# Altium footprint library 1008 Metric2520.PcbLib: 1 footprints
Each footprint in its own frame and in the unit in brackets; x right, y up, seen from the top. Pads: shape width x height; smd on the part's side, far side on the other; paste and mask are expansions set on the pad; w line width, h text height; cw(c..) or ccw(c..) is an arc to the next point about the centre after c.
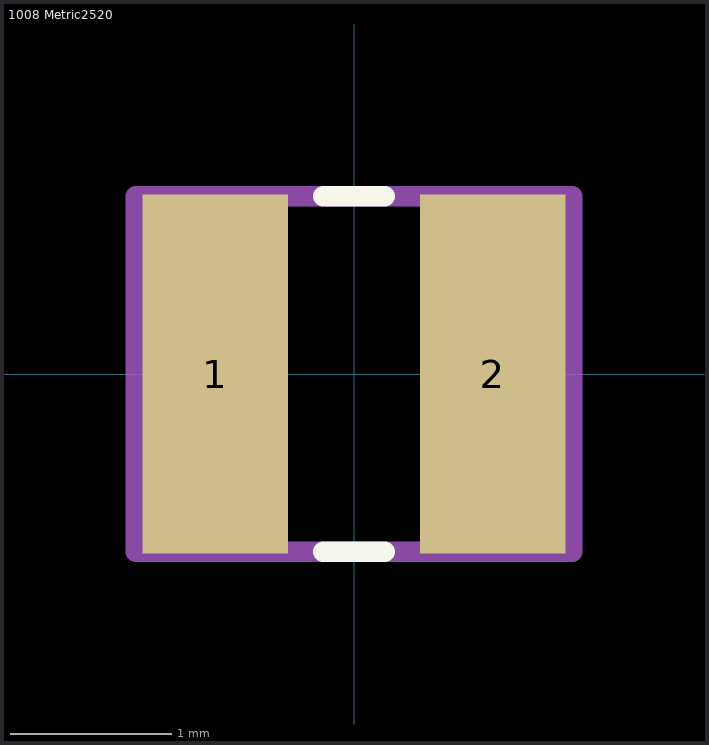
[diagram p0: the footprint, top view; thin cyan lines are the x and y axes]

## 1008 Metric2520 [mm]
pads (2):
  rect 0.9x2.22 smd: 1(-0.86,0) 2(0.86,0)
Top Overlay:
  lines w0.127: -0.19,-1.1 0.19,-1.1 ; -0.19,1.1 0.19,1.1
Mechanical 13:
  lines w0.127: -1.35,-1.1 -1.35,1.1 1.35,1.1 1.35,-1.1 -1.35,-1.1
3D body "step_temp.STEP": height 1, standoff 0, extent -1.25,-1 1.25,1